# EAGLE library part 649022227222 (library Wuerth_Elektronik_eiCan_Wire_to_Board_Connectors)
WR-MPC4-4.20mm Male Dual Row Angled Header with Mounting Pegs,22 pins=>Code : Con_WTB_MPC4_2_PCB_649022227222 <http://katalog.we-online.de/media/thumbs2/eican/thb_Con_WTB_MPC4_2_PCB_6490xx227222_pf2.jpg> Details see: http://katalog.we-online.de/en/em/649_0xx_227_222 Created 2014-06-06, Karrer Zheng 2014 (C) Würth Elektronik
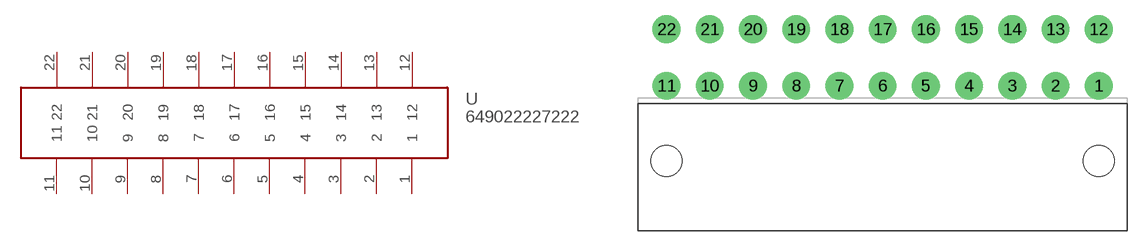
[diagram p318: symbol with the pads of 649022227222; footprint 649022227222]

Designator prefix -

## 649022227222  [649022227222]
1  1
2  2
3  3
4  4
5  5
6  6
7  7
8  8
9  9
10  10
11  11
12  12
13  13
14  14
15  15
16  16
17  17
18  18
19  19
20  20
21  21
22  22

## Footprint 649022227222 (pad centres in mm)
WR-MPC4-4.20mm Male Dual Row Angled Header with Mounting Pegs,22 pins
drill 1.8: 1 23.635,-2.75; 2 19.435,-2.75; 3 15.235,-2.75; 4 11.035,-2.75; 5 6.835,-2.75; 6 2.635,-2.75; 7 -1.565,-2.75; 8 -5.765,-2.75; 9 -9.965,-2.75; 10 -14.165,-2.75; 11 -18.365,-2.75; 12 23.635,2.75; 13 19.435,2.75; 14 15.235,2.75; 15 11.035,2.75; 16 6.835,2.75; 17 2.635,2.75; 18 -1.565,2.75; 19 -5.765,2.75; 20 -9.965,2.75; 21 -14.165,2.75; 22 -18.365,2.75
hole 3 at -18.365,-10.05
hole 3 at 23.635,-10.05